# EAGLE library part LOGIC_LEVEL_CONVERTER (library SparkFun-Boards)
Logic Level Converter (3.3v - 5v) https://www.sparkfun.com/products/8745
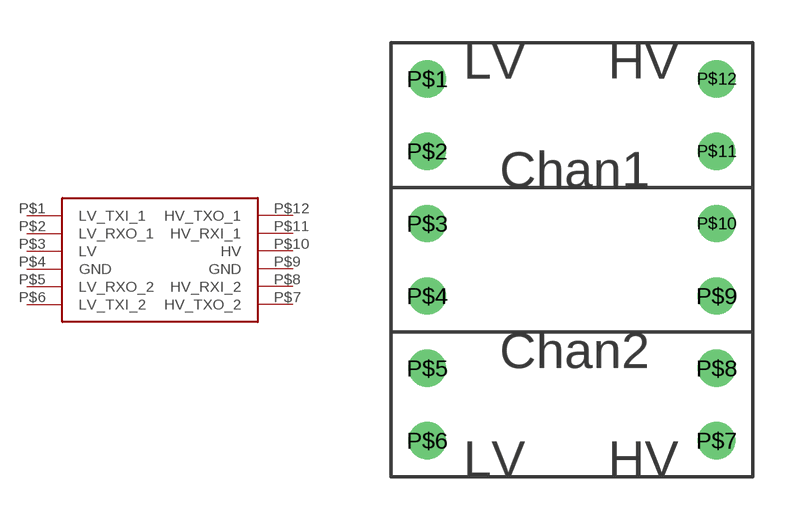
[diagram p11: symbol with the pads of LOGIC_LEVEL_CONVERTER; footprint LOGIC_LEVEL_CONVERTER]

Designator prefix -

## LOGIC_LEVEL_CONVERTER  [LOGIC_LEVEL_CONVERTER]
P$1  LV_TXI_1
P$2  LV_RXO_1
P$3  LV
P$4  GND
P$5  LV_RXO_2
P$6  LV_TXI_2
P$7  HV_TXO_2
P$8  HV_RXI_2
P$9  GND
P$10  HV
P$11  HV_RXI_1
P$12  HV_TXO_1

## Footprint LOGIC_LEVEL_CONVERTER (pad centres in mm)
drill 0.8: P$1 1.27,13.97; P$2 1.27,11.43; P$3 1.27,8.89; P$4 1.27,6.35; P$5 1.27,3.81; P$6 1.27,1.27; P$7 11.43,1.27; P$8 11.43,3.81; P$9 11.43,6.35; P$10 11.43,8.89; P$11 11.43,11.43; P$12 11.43,13.97